# EAGLE library part RESISTOR_PACK_4 (library 326298_rev_a)
SIL RESISTOR
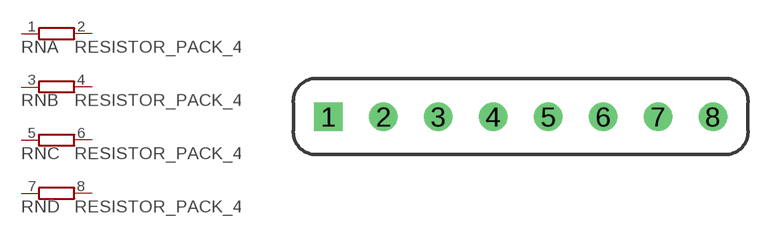
[diagram p25: symbol with the pads of RESISTOR_PACK_4; footprint RESISTOR_PACK_4]

Designator prefix RN; gates A=RNV B=RNV C=RNV D=RNV

## RESISTOR_PACK_4 (OC_FARNELL: unknown; OC_NEWARK: unknown)  [RESISTOR_PACK_4]
1  A:1  pas
2  A:2  pas
3  B:1  pas
4  B:2  pas
5  C:1  pas
6  C:2  pas
7  D:1  pas
8  D:2  pas

## Footprint RESISTOR_PACK_4 (pad centres in mm)
Single In Line
drill 0.813 square: 1 0,0
drill 0.813: 2 2.54,0; 3 5.08,0; 4 7.62,0; 5 10.16,0; 6 12.7,0; 7 15.24,0; 8 17.78,0